# Altium footprint library TSSOP_50P_L.PcbLib: 24 footprints (part 2 of 2)
Each footprint in its own frame and in the unit in brackets; x right, y up, seen from the top. Pads: shape width x height; smd on the part's side, far side on the other; paste and mask are expansions set on the pad; w line width, h text height; cw(c..) or ccw(c..) is an arc to the next point about the centre after c.
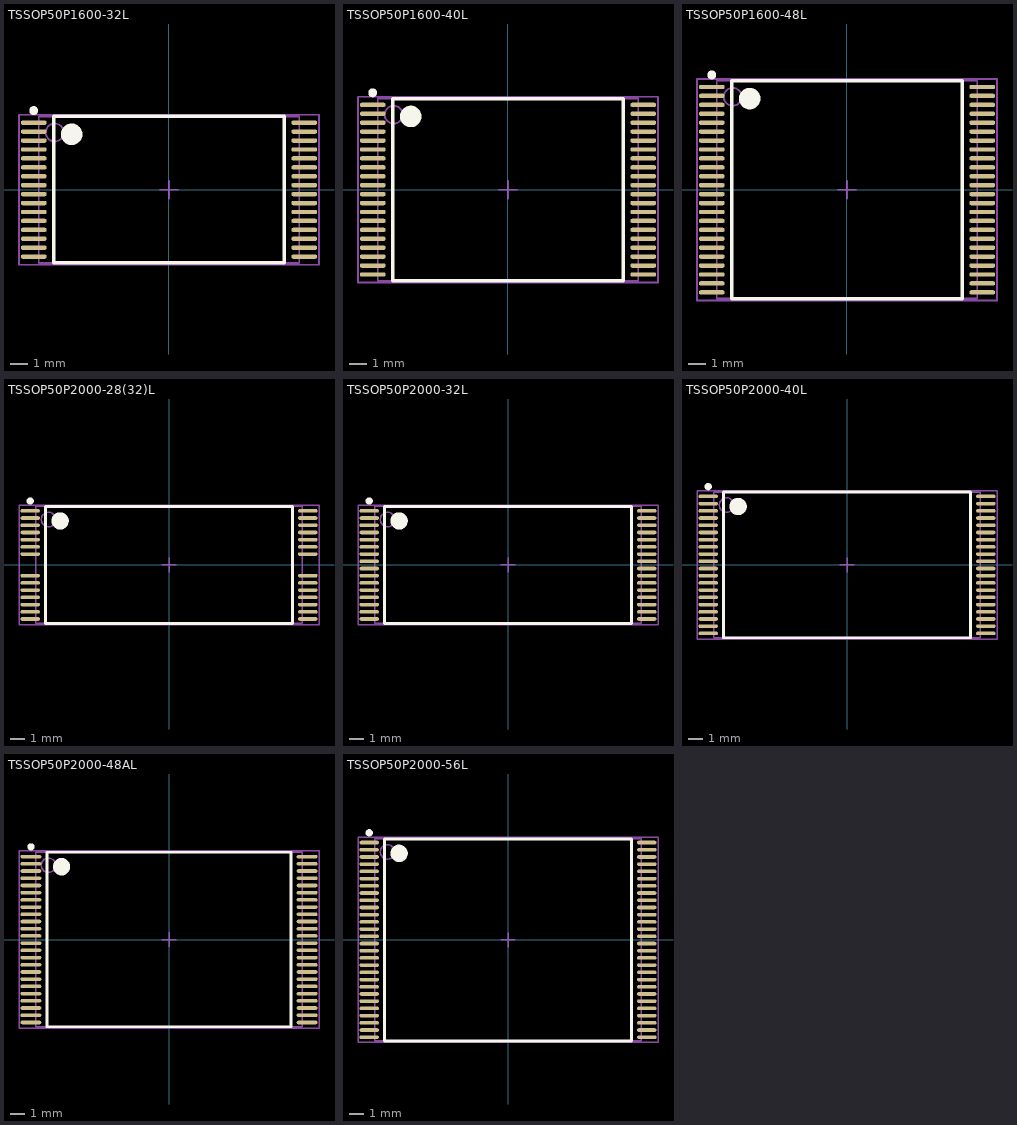
[diagram p1: the footprints below, top view; thin cyan lines are the x and y axes]

## TSSOP50P1600-32L [mm] "TSSOP, 32-Leads, Body 8x14.4mm, Pitch 0.5mm, IPC High Density"
height 1.27
pads (32):
  oval 1.45x0.25 smd: 1(-7.575,3.75) 2(-7.575,3.25) 3(-7.575,2.75) 4(-7.575,2.25) 5(-7.575,1.75) 6(-7.575,1.25) 7(-7.575,0.75) 8(-7.575,0.25) 9(-7.575,-0.25) 10(-7.575,-0.75) 11(-7.575,-1.25) 12(-7.575,-1.75) 13(-7.575,-2.25) 14(-7.575,-2.75) 15(-7.575,-3.25) 16(-7.575,-3.75) 17(7.575,-3.75) 18(7.575,-3.25) 19(7.575,-2.75) 20(7.575,-2.25) 21(7.575,-1.75) 22(7.575,-1.25) 23(7.575,-0.75) 24(7.575,-0.25) 25(7.575,0.25) 26(7.575,0.75) 27(7.575,1.25) 28(7.575,1.75) 29(7.575,2.25) 30(7.575,2.75) 31(7.575,3.25) 32(7.575,3.75)
Top Overlay:
  circle w0.6: c-5.45,3.1 r0.3
  circle w0.25: c-7.575,4.425 r0.125
  lines w0.2: -6.45,-4.1 6.45,-4.1 6.45,4.1 -6.45,4.1 -6.45,-4.1
Mechanical 13:
  circle w0.1: c-6.4,3.2 r0.5
  lines w0.1: -7.3,-4.1 7.3,-4.1 7.3,4.1 -7.3,4.1 -7.3,-4.1
Mechanical 15:
  lines w0.1: -0.5,0 0.5,0 ; 0,-0.5 0,0.5 ; -8.4,-4.2 8.4,-4.2 8.4,4.2 -8.4,4.2 -8.4,-4.2
3D body: height 1.27, standoff 0, extent -7.3,-4.1 7.3,4.1

## TSSOP50P1600-40L [mm] "TSSOP, 40-Leads, Body 10x14.4mm, Pitch 0.5mm, IPC High Density"
height 1.27
pads (40):
  oval 1.45x0.25 smd: 1(-7.575,4.75) 2(-7.575,4.25) 3(-7.575,3.75) 4(-7.575,3.25) 5(-7.575,2.75) 6(-7.575,2.25) 7(-7.575,1.75) 8(-7.575,1.25) 9(-7.575,0.75) 10(-7.575,0.25) 11(-7.575,-0.25) 12(-7.575,-0.75) 13(-7.575,-1.25) 14(-7.575,-1.75) 15(-7.575,-2.25) 16(-7.575,-2.75) 17(-7.575,-3.25) 18(-7.575,-3.75) 19(-7.575,-4.25) 20(-7.575,-4.75) 21(7.575,-4.75) 22(7.575,-4.25) 23(7.575,-3.75) 24(7.575,-3.25) 25(7.575,-2.75) 26(7.575,-2.25) 27(7.575,-1.75) 28(7.575,-1.25) 29(7.575,-0.75) 30(7.575,-0.25) 31(7.575,0.25) 32(7.575,0.75) 33(7.575,1.25) 34(7.575,1.75) 35(7.575,2.25) 36(7.575,2.75) 37(7.575,3.25) 38(7.575,3.75) 39(7.575,4.25) 40(7.575,4.75)
Top Overlay:
  circle w0.6: c-5.45,4.1 r0.3
  circle w0.25: c-7.575,5.425 r0.125
  lines w0.2: -6.45,-5.1 6.45,-5.1 6.45,5.1 -6.45,5.1 -6.45,-5.1
Mechanical 13:
  circle w0.1: c-6.4,4.2 r0.5
  lines w0.1: -7.3,-5.1 7.3,-5.1 7.3,5.1 -7.3,5.1 -7.3,-5.1
Mechanical 15:
  lines w0.1: -0.5,0 0.5,0 ; 0,-0.5 0,0.5 ; -8.4,-5.2 8.4,-5.2 8.4,5.2 -8.4,5.2 -8.4,-5.2
3D body: height 1.27, standoff 0, extent -7.3,-5.1 7.3,5.1

## TSSOP50P1600-48L [mm] "TSSOP, 48-Leads, Body 12x14.4mm, Pitch 0.5mm, IPC High Density"
height 1.27
pads (48):
  oval 1.45x0.25 smd: 1(-7.575,5.75) 2(-7.575,5.25) 3(-7.575,4.75) 4(-7.575,4.25) 5(-7.575,3.75) 6(-7.575,3.25) 7(-7.575,2.75) 8(-7.575,2.25) 9(-7.575,1.75) 10(-7.575,1.25) 11(-7.575,0.75) 12(-7.575,0.25) 13(-7.575,-0.25) 14(-7.575,-0.75) 15(-7.575,-1.25) 16(-7.575,-1.75) 17(-7.575,-2.25) 18(-7.575,-2.75) 19(-7.575,-3.25) 20(-7.575,-3.75) 21(-7.575,-4.25) 22(-7.575,-4.75) 23(-7.575,-5.25) 24(-7.575,-5.75) 25(7.575,-5.75) 26(7.575,-5.25) 27(7.575,-4.75) 28(7.575,-4.25) 29(7.575,-3.75) 30(7.575,-3.25) 31(7.575,-2.75) 32(7.575,-2.25) 33(7.575,-1.75) 34(7.575,-1.25) 35(7.575,-0.75) 36(7.575,-0.25) 37(7.575,0.25) 38(7.575,0.75) 39(7.575,1.25) 40(7.575,1.75) 41(7.575,2.25) 42(7.575,2.75) 43(7.575,3.25) 44(7.575,3.75) 45(7.575,4.25) 46(7.575,4.75) 47(7.575,5.25) 48(7.575,5.75)
Top Overlay:
  circle w0.25: c-7.575,6.425 r0.125
  circle w0.6: c-5.45,5.1 r0.3
  lines w0.2: -6.45,-6.1 -6.45,6.1 6.45,6.1 6.45,-6.1 -6.45,-6.1
Mechanical 13:
  circle w0.1: c-6.4,5.2 r0.5
  lines w0.1: -7.3,-6.1 -7.3,6.1 7.3,6.1 7.3,-6.1 -7.3,-6.1
Mechanical 15:
  lines w0.1: -0.5,0 0.5,0 ; 0,-0.5 0,0.5 ; -8.4,-6.2 -8.4,6.2 8.4,6.2 8.4,-6.2 -8.4,-6.2
3D body: height 1.27, standoff 0, extent -7.3,-6.1 7.3,6.1

## TSSOP50P2000-28(32)L [mm] "TSSOP, 28-Leads, Body 8x18.4mm, Pitch 0.5mm, IPC High Density"
height 1.3
pads (28):
  oval 1.35x0.25 smd: 1(-9.625,3.75) 2(-9.625,3.25) 3(-9.625,2.75) 4(-9.625,2.25) 5(-9.625,1.75) 6(-9.625,1.25) 7(-9.625,0.75) 8(-9.625,-0.75) 9(-9.625,-1.25) 10(-9.625,-1.75) 11(-9.625,-2.25) 12(-9.625,-2.75) 13(-9.625,-3.25) 14(-9.625,-3.75) 15(9.625,-3.75) 16(9.625,-3.25) 17(9.625,-2.75) 18(9.625,-2.25) 19(9.625,-1.75) 20(9.625,-1.25) 21(9.625,-0.75) 22(9.625,0.75) 23(9.625,1.25) 24(9.625,1.75) 25(9.625,2.25) 26(9.625,2.75) 27(9.625,3.25) 28(9.625,3.75)
Top Overlay:
  circle w0.25: c-9.625,4.425 r0.125
  circle w0.6: c-7.55,3.05 r0.3
  lines w0.2: -8.55,-4.05 -8.55,4.05 8.55,4.05 8.55,-4.05 -8.55,-4.05
Mechanical 13:
  circle w0.1: c-8.35,3.15 r0.5
  lines w0.1: -9.25,-4.05 -9.25,4.05 9.25,4.05 9.25,-4.05 -9.25,-4.05
Mechanical 15:
  lines w0.1: -0.5,0 0.5,0 ; 0,-0.5 0,0.5 ; -10.4,-4.15 -10.4,4.15 10.4,4.15 10.4,-4.15 -10.4,-4.15
3D body: height 1.3, standoff 0.05, extent -9.25,-4.05 9.25,4.05

## TSSOP50P2000-32L [mm] "TSSOP, 32-Leads, Body 7.6x18.4mm, Pitch 0.5mm, IPC High Density"
height 1.05
pads (32):
  oval 1.35x0.25 smd: 1(-9.625,3.75) 2(-9.625,3.25) 3(-9.625,2.75) 4(-9.625,2.25) 5(-9.625,1.75) 6(-9.625,1.25) 7(-9.625,0.75) 8(-9.625,0.25) 9(-9.625,-0.25) 10(-9.625,-0.75) 11(-9.625,-1.25) 12(-9.625,-1.75) 13(-9.625,-2.25) 14(-9.625,-2.75) 15(-9.625,-3.25) 16(-9.625,-3.75) 17(9.625,-3.75) 18(9.625,-3.25) 19(9.625,-2.75) 20(9.625,-2.25) 21(9.625,-1.75) 22(9.625,-1.25) 23(9.625,-0.75) 24(9.625,-0.25) 25(9.625,0.25) 26(9.625,0.75) 27(9.625,1.25) 28(9.625,1.75) 29(9.625,2.25) 30(9.625,2.75) 31(9.625,3.25) 32(9.625,3.75)
Top Overlay:
  circle w0.25: c-9.625,4.425 r0.125
  circle w0.6: c-7.55,3.05 r0.3
  lines w0.2: -8.55,-4.05 -8.55,4.05 8.55,4.05 8.55,-4.05 -8.55,-4.05
Mechanical 13:
  circle w0.1: c-8.35,3.15 r0.5
  lines w0.1: -9.25,-4.05 -9.25,4.05 9.25,4.05 9.25,-4.05 -9.25,-4.05
Mechanical 15:
  lines w0.1: -0.5,0 0.5,0 ; 0,-0.5 0,0.5 ; -10.4,-4.15 -10.4,4.15 10.4,4.15 10.4,-4.15 -10.4,-4.15
3D body: height 1.05, standoff 0, extent -9.25,-4.05 9.25,4.05

## TSSOP50P2000-40L [mm] "TSSOP, 40-Leads, Body 10x18.4mm, Pitch 0.5mm, IPC High Density"
height 1.2
pads (40):
  oval 1.35x0.25 smd: 1(-9.625,4.75) 2(-9.625,4.25) 3(-9.625,3.75) 4(-9.625,3.25) 5(-9.625,2.75) 6(-9.625,2.25) 7(-9.625,1.75) 8(-9.625,1.25) 9(-9.625,0.75) 10(-9.625,0.25) 11(-9.625,-0.25) 12(-9.625,-0.75) 13(-9.625,-1.25) 14(-9.625,-1.75) 15(-9.625,-2.25) 16(-9.625,-2.75) 17(-9.625,-3.25) 18(-9.625,-3.75) 19(-9.625,-4.25) 20(-9.625,-4.75) 21(9.625,-4.75) 22(9.625,-4.25) 23(9.625,-3.75) 24(9.625,-3.25) 25(9.625,-2.75) 26(9.625,-2.25) 27(9.625,-1.75) 28(9.625,-1.25) 29(9.625,-0.75) 30(9.625,-0.25) 31(9.625,0.25) 32(9.625,0.75) 33(9.625,1.25) 34(9.625,1.75) 35(9.625,2.25) 36(9.625,2.75) 37(9.625,3.25) 38(9.625,3.75) 39(9.625,4.25) 40(9.625,4.75)
Top Overlay:
  circle w0.6: c-7.55,4.05 r0.3
  circle w0.25: c-9.625,5.425 r0.125
  lines w0.2: -8.55,-5.05 8.55,-5.05 8.55,5.05 -8.55,5.05 -8.55,-5.05
Mechanical 13:
  circle w0.1: c-8.35,4.15 r0.5
  lines w0.1: -9.25,-5.05 9.25,-5.05 9.25,5.05 -9.25,5.05 -9.25,-5.05
Mechanical 15:
  lines w0.1: -0.5,0 0.5,0 ; 0,-0.5 0,0.5 ; -10.4,-5.15 10.4,-5.15 10.4,5.15 -10.4,5.15 -10.4,-5.15
3D body: height 1.2, standoff 0, extent -9.25,-5.05 9.25,5.05

## TSSOP50P2000-48AL [mm] "TSSOP, 48-Leads, Body 12x18.4mm, Pitch 0.5mm, IPC High Density"
height 1.2
pads (48):
  oval 1.45x0.25 smd: 1(-9.575,5.75) 2(-9.575,5.25) 3(-9.575,4.75) 4(-9.575,4.25) 5(-9.575,3.75) 6(-9.575,3.25) 7(-9.575,2.75) 8(-9.575,2.25) 9(-9.575,1.75) 10(-9.575,1.25) 11(-9.575,0.75) 12(-9.575,0.25) 13(-9.575,-0.25) 14(-9.575,-0.75) 15(-9.575,-1.25) 16(-9.575,-1.75) 17(-9.575,-2.25) 18(-9.575,-2.75) 19(-9.575,-3.25) 20(-9.575,-3.75) 21(-9.575,-4.25) 22(-9.575,-4.75) 23(-9.575,-5.25) 24(-9.575,-5.75) 25(9.575,-5.75) 26(9.575,-5.25) 27(9.575,-4.75) 28(9.575,-4.25) 29(9.575,-3.75) 30(9.575,-3.25) 31(9.575,-2.75) 32(9.575,-2.25) 33(9.575,-1.75) 34(9.575,-1.25) 35(9.575,-0.75) 36(9.575,-0.25) 37(9.575,0.25) 38(9.575,0.75) 39(9.575,1.25) 40(9.575,1.75) 41(9.575,2.25) 42(9.575,2.75) 43(9.575,3.25) 44(9.575,3.75) 45(9.575,4.25) 46(9.575,4.75) 47(9.575,5.25) 48(9.575,5.75)
Top Overlay:
  circle w0.25: c-9.575,6.425 r0.125
  circle w0.6: c-7.45,5.05 r0.3
  lines w0.2: -8.45,-6.05 -8.45,6.05 8.45,6.05 8.45,-6.05 -8.45,-6.05
Mechanical 13:
  circle w0.1: c-8.35,5.15 r0.5
  lines w0.1: -9.25,-6.05 -9.25,6.05 9.25,6.05 9.25,-6.05 -9.25,-6.05
Mechanical 15:
  lines w0.1: -0.5,0 0.5,0 ; 0,-0.5 0,0.5 ; -10.4,-6.15 -10.4,6.15 10.4,6.15 10.4,-6.15 -10.4,-6.15
3D body: height 1.2, standoff 0, extent -9.25,-6.05 9.25,6.05

## TSSOP50P2000-56L [mm] "TSSOP, 56-Leads, Body 14x18.4mm, Pitch 0.5mm, IPC High Density"
height 1.2
pads (56):
  oval 1.35x0.25 smd: 1(-9.625,6.75) 2(-9.625,6.25) 3(-9.625,5.75) 4(-9.625,5.25) 5(-9.625,4.75) 6(-9.625,4.25) 7(-9.625,3.75) 8(-9.625,3.25) 9(-9.625,2.75) 10(-9.625,2.25) 11(-9.625,1.75) 12(-9.625,1.25) 13(-9.625,0.75) 14(-9.625,0.25) 15(-9.625,-0.25) 16(-9.625,-0.75) 17(-9.625,-1.25) 18(-9.625,-1.75) 19(-9.625,-2.25) 20(-9.625,-2.75) 21(-9.625,-3.25) 22(-9.625,-3.75) 23(-9.625,-4.25) 24(-9.625,-4.75) 25(-9.625,-5.25) 26(-9.625,-5.75) 27(-9.625,-6.25) 28(-9.625,-6.75) 29(9.625,-6.75) 30(9.625,-6.25) 31(9.625,-5.75) 32(9.625,-5.25) 33(9.625,-4.75) 34(9.625,-4.25) 35(9.625,-3.75) 36(9.625,-3.25) 37(9.625,-2.75) 38(9.625,-2.25) 39(9.625,-1.75) 40(9.625,-1.25) 41(9.625,-0.75) 42(9.625,-0.25) 43(9.625,0.25) 44(9.625,0.75) 45(9.625,1.25) 46(9.625,1.75) 47(9.625,2.25) 48(9.625,2.75) 49(9.625,3.25) 50(9.625,3.75) 51(9.625,4.25) 52(9.625,4.75) 53(9.625,5.25) 54(9.625,5.75) 55(9.625,6.25) 56(9.625,6.75)
Top Overlay:
  circle w0.6: c-7.55,6 r0.3
  circle w0.25: c-9.625,7.425 r0.125
  lines w0.2: -8.55,-7 8.55,-7 8.55,7 -8.55,7 -8.55,-7
Mechanical 13:
  circle w0.1: c-8.35,6.1 r0.5
  lines w0.1: -9.25,-7 9.25,-7 9.25,7 -9.25,7 -9.25,-7
Mechanical 15:
  lines w0.1: -0.5,0 0.5,0 ; 0,-0.5 0,0.5 ; -10.4,-7.1 10.4,-7.1 10.4,7.1 -10.4,7.1 -10.4,-7.1
3D body: height 1.2, standoff 0, extent -9.25,-7 9.25,7